# Altium schematic symbol library Pi_Zero_Assembly.SchLib: 1 symbol
Pins are listed as number, name and electrical type; pins without a type are passive.

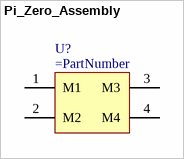
[diagram p0: symbol Pi_Zero_Assembly]

## Pi_Zero_Assembly
designator U?
pins: 1 M1, 2 M2, 3 M3, 4 M4